# Altium footprint library arduino.PcbLib: 22 footprints (part 1 of 2)
Each footprint in its own frame and in the unit in brackets; x right, y up, seen from the top. Pads: shape width x height; smd on the part's side, far side on the other; paste and mask are expansions set on the pad; w line width, h text height; cw(c..) or ccw(c..) is an arc to the next point about the centre after c.
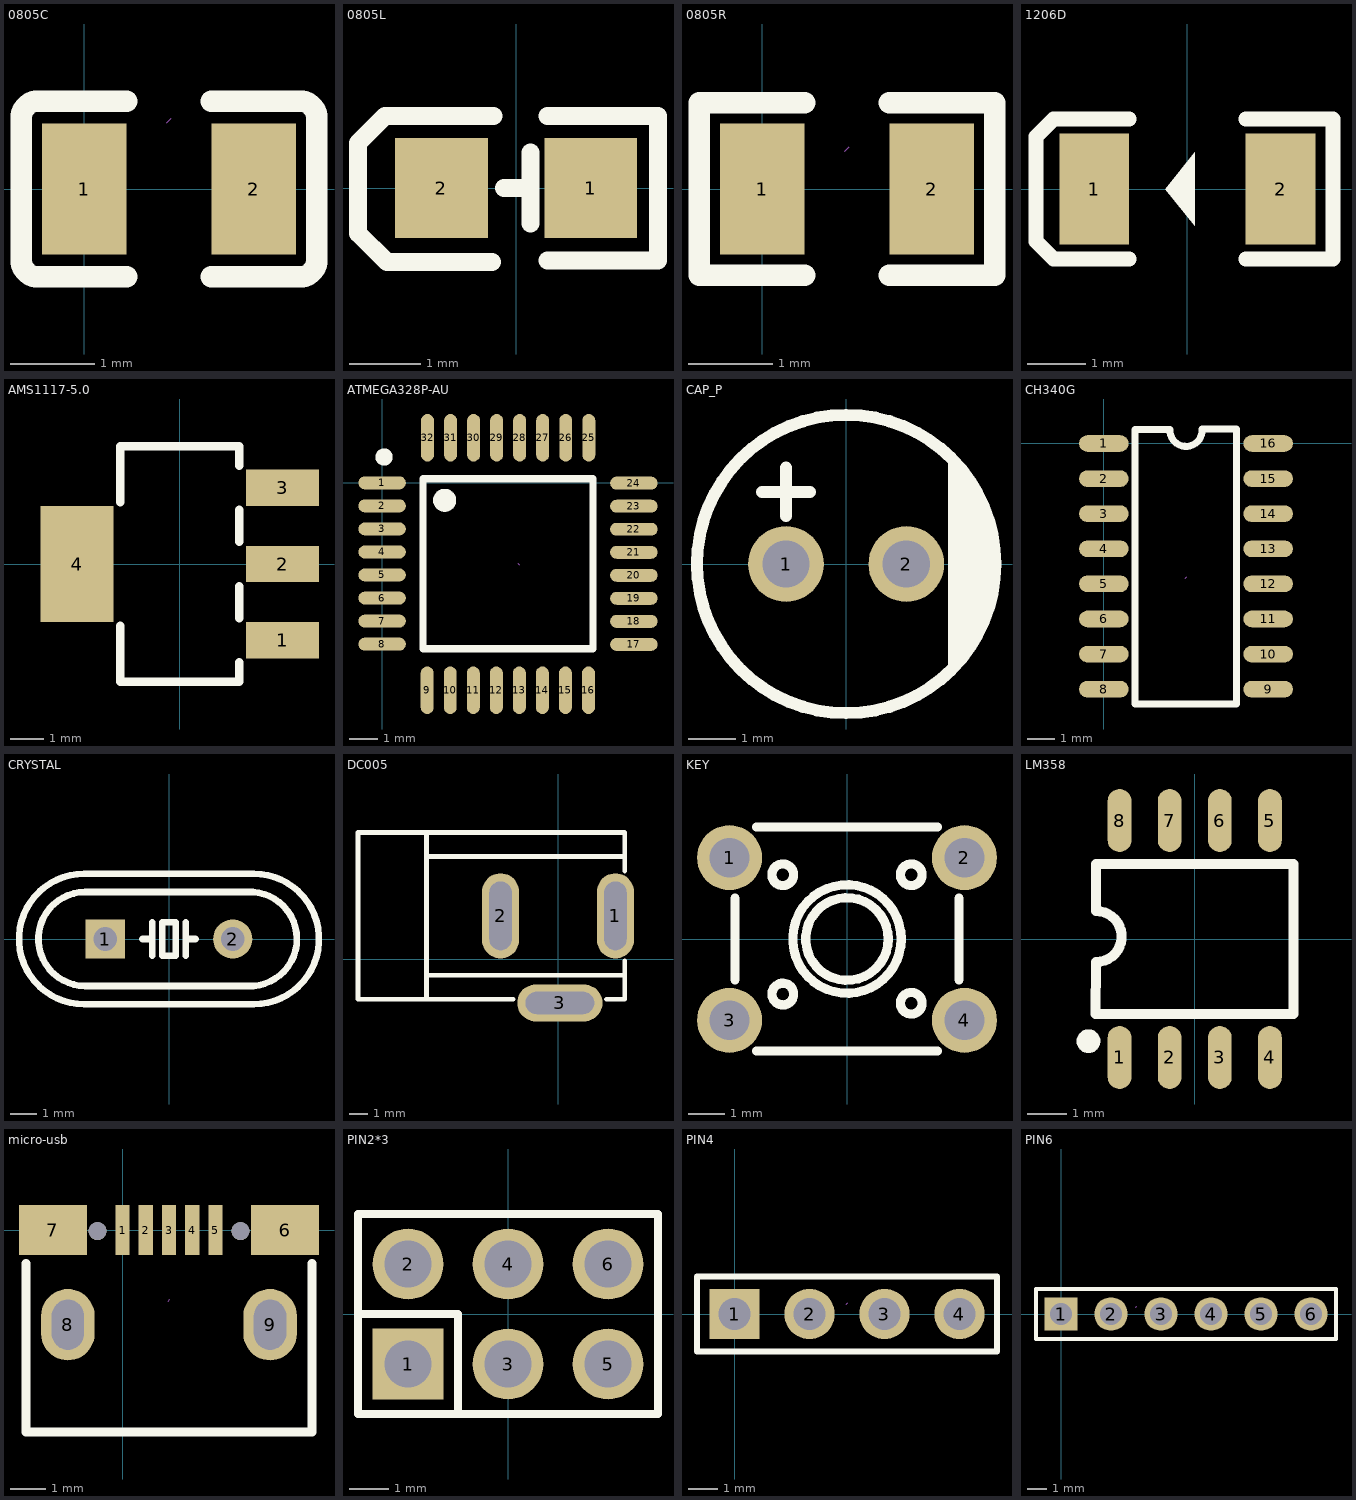
[diagram p0: the footprints below, top view; thin cyan lines are the x and y axes]

## 0805C [mm]
pads (2):
  rect 1x1.55 smd: 1(0,0) 2(2,0)
Top Overlay:
  lines w0.254: -0.75,0.82 -0.75,0.8 ; 0.5,-1.04 -0.55,-1.04 cw(c-0.55,-0.84) -0.75,-0.84 -0.75,-0.8 -0.75,0.8 ; 0.5,1.04 -0.55,1.04 ccw(c-0.55,0.84) -0.75,0.84 -0.75,0.8 ; 1.5,-1.04 2.55,-1.04 ccw(c2.55,-0.84) 2.75,-0.84 2.75,-0.8 2.75,0.8 2.75,0.84 ccw(c2.55,0.84) 2.55,1.04 1.5,1.04
Mechanical 15:
  lines w0.003: 0.975,0.785 1.025,0.836

## 0805L [mm]
pads (2):
  rect 1.3x1.4 smd: 1(1.05,0) 2(-1.05,0)
Top Overlay:
  lines w0.254: -0.344,-1.043 -1.817,-1.043 -2.224,-0.636 -2.224,0.634 -1.843,1.015 -0.319,1.015 ; -0.169,0 0.1,0 ; 0.2,-0.5 0.2,0.5 ; 0.443,-1.017 1.993,-1.017 1.993,1.015 0.443,1.015

## 0805R [mm]
pads (2):
  rect 1x1.55 smd: 1(0,0) 2(2,0)
Top Overlay:
  lines w0.254: 0.5,-1.02 -0.75,-1.02 -0.75,1.02 0.5,1.02 ; 1.5,-1.02 2.75,-1.02 2.75,1.02 1.5,1.02
Mechanical 15:
  lines w0.003: 0.975,0.449 1.025,0.5

## 1206D [mm]
pads (2):
  rect 1.2x1.9 smd: 1(-1.6,0) 2(1.6,0)
Top Overlay:
  region: 0.127,0 0.127,0.635 -0.381,0 0.127,-0.635
  lines w0.254: -1,-1.2 -2.2,-1.2 -2.3,-1.2 -2.6,-0.9 -2.6,0.9 -2.3,1.2 -2.2,1.2 -1,1.2 ; 1,-1.2 2.5,-1.2 2.5,1.2 1,1.2

## AMS1117-5.0 [mm]
pads (4):
  rect 2.2x1.1 smd: 1(3.099,-2.3) 2(3.099,0) 3(3.099,2.3)
  rect 2.2x3.5 smd: 4(-3.099,0)
Top Overlay:
  lines w0.254: -1.8,-1.865 -1.8,-3.55 1.8,-3.55 1.8,-2.965 ; -1.8,1.865 -1.8,3.55 1.8,3.55 1.8,2.965 ; 1.8,-1.635 1.8,-0.665 ; 1.8,0.665 1.8,1.635

## ATMEGA328P-AU [mm]
pads (32):
  oval 1.65x0.45 smd: 1(0,0) 2(0,-0.8) 3(0,-1.6) 4(0,-2.4) 5(0,-3.198) 6(0,-3.998) 7(0,-4.798) 8(0,-5.598) 17(8.738,-5.608) 18(8.738,-4.808) 19(8.738,-4.008) 20(8.738,-3.208) 21(8.738,-2.41) 22(8.738,-1.61) 23(8.738,-0.81) 24(8.738,-0.01)
  oval 0.45x1.65 smd: 9(1.565,-7.198) 10(2.365,-7.198) 11(3.165,-7.198) 12(3.965,-7.198) 13(4.763,-7.198) 14(5.563,-7.198) 15(6.363,-7.198) 16(7.163,-7.198) 25(7.173,1.565) 26(6.373,1.565) 27(5.573,1.565) 28(4.773,1.565) 29(3.975,1.565) 30(3.175,1.565) 31(2.375,1.565) 32(1.575,1.565)
Top Overlay:
  lines w0.254: 1.419,-5.754 1.419,0.146 7.319,0.146 7.319,-5.754 1.419,-5.754
  lines w0.3: 0.218,0.894 cw(c0.068,0.895) 0.218,0.897
  lines w0.4: 2.37,-0.607 cw(c2.17,-0.606) 2.37,-0.605
Mechanical 15:
  lines w0.003: 4.706,-2.791 4.756,-2.842

## CAP_P [mm]
pads (2):
  round 1.6 hole 1: 1(-1.27,0) 2(1.27,0)
Top Overlay:
  circle w0.254: c0,0 r3.15
  region: 2.16,2.287 2.28,2.184 2.595,1.816 2.848,1.402 3.033,0.955 3.146,0.483 3.185,0 3.146,-0.483 3.033,-0.955 2.848,-1.402 2.595,-1.816 2.28,-2.184 2.16,-2.287 2.159,-2.286 2.159,2.286
  lines w0.254: -1.778,1.524 -0.762,1.524 ; -1.27,1.016 -1.27,2.032

## CH340G [mm]
pads (16):
  oval 1.798x0.6 smd: 1(0,0) 2(0,-1.27) 3(0,-2.54) 4(0,-3.81) 5(0,-5.08) 6(0,-6.35) 7(0,-7.62) 8(0,-8.89) 9(5.944,-8.89) 10(5.944,-7.62) 11(5.944,-6.35) 12(5.944,-5.08) 13(5.944,-3.81) 14(5.944,-2.54) 15(5.944,-1.27) 16(5.944,0)
Top Overlay:
  lines w0.254: 1.118,0.483 1.118,-9.421 4.801,-9.421 4.801,0.531 3.556,0.531 ; 1.118,0.508 2.388,0.508 ccw(c2.972,0.483) 3.556,0.505
Mechanical 15:
  lines w0.003: 2.946,-4.872 2.997,-4.821

## CRYSTAL [mm]
pads (2):
  rect 1.5x1.5 hole 0.9: 1(-2.438,0)
  round 1.5 hole 0.9: 2(2.438,0)
Top Overlay:
  lines w0.254: -3.251,2.499 ccw(c-3.243,0) -3.25,-2.5 3.25,-2.5 ; -3.25,2.5 3.25,2.5 cw(c3.243,0) 3.251,-2.499 ; -3.2,1.8 3.2,1.8 cw(c3.093,0) 3,-1.801 ; -3.2,1.801 ccw(c-3.2,0) -3.2,-1.8 3,-1.8 ; -1.016,0 -0.635,0 ; -0.635,-0.635 -0.635,0 ; -0.635,0.635 -0.635,0 ; 0.635,-0.635 0.635,0 ; 0.635,0.635 0.635,0 ; 1.016,0 0.635,0 ; -0.254,-0.635 0.254,-0.635 0.254,0.635 -0.254,0.635 -0.254,-0.635

## DC005 [mm]
pads (3):
  oval 2x4.6 hole 1.2 slot 3.7 at 90 deg: 1(3.1,2.35) 2(-3.1,2.35)
  oval 4.6x2 hole 1.2 slot 3.7 at 0 deg: 3(0.1,-2.35)
Top Overlay:
  lines w0.254: -7.1,-2.15 -7.1,6.85 ; -7.019,-0.85 3.601,-0.85 ; -7.019,5.55 3.601,5.55 ; -2.415,-2.15 -10.8,-2.15 -10.8,6.85 3.601,6.85 3.601,4.775 ; 2.615,-2.15 3.601,-2.15 3.601,-0.074

## KEY [mm]
pads (4):
  round 1.8 hole 1.1: 1(-3.251,2.25) 2(3.251,2.25) 3(-3.251,-2.25) 4(3.251,-2.25)
Top Overlay:
  circle w0.254: c0,0 r1.143
  circle w0.254: c0,0 r1.501
  circle w0.254: c1.778,1.778 r0.3
  circle w0.254: c1.778,-1.778 r0.3
  circle w0.254: c-1.778,1.778 r0.3
  circle w0.254: c-1.778,-1.524 r0.3
  lines w0.254: -3.1,-1.129 -3.1,1.129 ; -2.506,-3.1 2.506,-3.1 ; -2.506,3.1 2.506,3.1 ; 3.1,-1.129 3.1,1.129

## LM358 [mm]
pads (8):
  oval 0.6x1.598 smd: 1(-1.905,-3) 2(-0.635,-3) 3(0.635,-3) 4(1.905,-3) 5(1.905,3) 6(0.635,3) 7(-0.635,3) 8(-1.905,3)
Top Overlay:
  lines w0.254: -2.515,-1.905 -2.5,-0.584 ccw(c-2.5,0.064) -2.5,0.711 ; -2.5,-1.9 2.5,-1.9 2.5,1.9 -2.5,1.9 -2.5,0.711
  lines w0.3: -2.692,-2.438 ccw(c-2.691,-2.588) -2.69,-2.438

## micro-usb [mm]
pads (11):
  rect 0.4x1.4 smd: 1(0,0) 2(0.65,0) 3(1.3,0) 4(1.95,0) 5(2.6,0)
  rect 1.9x1.4 smd: 6(4.55,0) 7(-1.95,0)
  oval 1.5x1.999 hole 0.9 slot 1.4 at 90 deg: 8(-1.53,-2.65) 9(4.13,-2.65)
  round 0.5 hole 0.5 unplated: ""(-0.7,-0.03) ""(3.3,-0.03)
Top Overlay:
  lines w0.254: -2.7,-0.931 -2.7,-5.65 5.3,-5.65 5.3,-0.931
Mechanical 15:
  lines w0.003: 1.275,-1.993 1.325,-1.942

## PIN2*3 [mm]
pads (6):
  rect 1.8x1.8 hole 1.2: 1(-2.54,-1.27)
  round 1.8 hole 1.2: 2(-2.54,1.27) 3(0,-1.27) 4(0,1.27) 5(2.54,-1.27) 6(2.54,1.27)
Top Overlay:
  lines w0.203: -3.81,0.002 -1.27,0.002 -1.27,-2.54 ; -1.058,-2.54 3.81,-2.54 ; 3.81,-2.54 -3.81,-2.54 -3.81,2.54 3.81,2.54 3.81,-2.54

## PIN4 [mm]
pads (4):
  rect 1.7x1.7 hole 1.1: 1(0,0)
  round 1.7 hole 1.1: 2(2.54,0) 3(5.08,0) 4(7.62,0)
Top Overlay:
  lines w0.203: -1.27,-1.27 8.89,-1.27 8.89,1.27 0.635,1.27 -1.27,1.27 -1.27,-1.27
Mechanical 15:
  lines w0.003: 3.785,0.337 3.835,0.387

## PIN6 [mm]
pads (6):
  rect 1.7x1.7 hole 1.1: 1(0,0)
  round 1.7 hole 1.1: 2(2.54,0) 3(5.08,0) 4(7.62,0) 5(10.16,0) 6(12.7,0)
Top Overlay:
  lines w0.203: -1.27,-1.27 -1.27,1.27 0.635,1.27 13.97,1.27 13.97,-1.27 -1.27,-1.27
Mechanical 15:
  lines w0.003: 3.785,0.337 3.835,0.387